# EAGLE library part USBLC6-2SC6 (library usblc6)
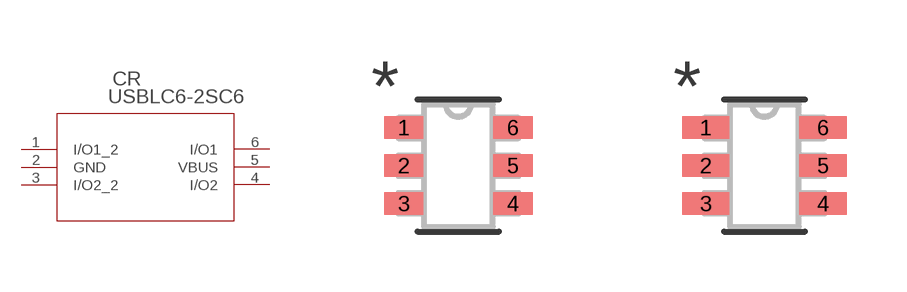
[diagram p0: symbol with the pads of SOT23-6L_STM; footprints SOT23-6L_STM, SOT23-6L_STM-M]

Designator prefix CR

## USBLC6-2SC6 (COPYRIGHT: Copyright (C) 2023 Ultra Librarian. All rights reserved.; MANUFACTURER_PART_NUMBER: USBLC6-2SC6; MFR_NAME: STMicroelectronics)  [SOT23-6L_STM]
1  I/O1_2
2  GND  pwr
3  I/O2_2
4  I/O2
5  VBUS  pwr
6  I/O1

## USBLC6-2SC6SOT23-6L_STM-M (COPYRIGHT: Copyright (C) 2023 Ultra Librarian. All rights reserved.; MANUFACTURER_PART_NUMBER: USBLC6-2SC6; MFR_NAME: STMicroelectronics)  [SOT23-6L_STM-M]
Pads as for SOT23-6L_STM

## USBLC6-2SC6SOT23-6L_STM-L (COPYRIGHT: Copyright (C) 2023 Ultra Librarian. All rights reserved.; MANUFACTURER_PART_NUMBER: USBLC6-2SC6; MFR_NAME: STMicroelectronics)  [SOT23-6L_STM-L]
Pads as for SOT23-6L_STM

## Footprint SOT23-6L_STM (pad centres in mm)
smd 0.978 x 0.559: 1 -1.365,0.95; 2 -1.365,0; 3 -1.365,-0.95; 4 1.365,-0.95; 5 1.365,0; 6 1.365,0.95

## Footprint SOT23-6L_STM-M (pad centres in mm)
smd 1.181 x 0.559: 1 -1.467,0.95; 2 -1.467,0; 3 -1.467,-0.95; 4 1.467,-0.95; 5 1.467,0; 6 1.467,0.95

## Footprint SOT23-6L_STM-L (pad centres in mm)
smd 0.775 x 0.508: 1 -1.264,0.95; 2 -1.264,0; 3 -1.264,-0.95; 4 1.264,-0.95; 5 1.264,0; 6 1.264,0.95